# Altium schematic symbol library DCP02xxxxDU.Schlib: 1 symbol
Pins are listed as number, name and electrical type; pins without a type are passive.

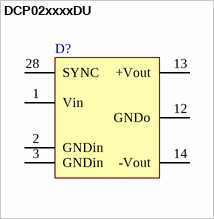
[diagram p0: symbol DCP02xxxxDU]

## DCP02xxxxDU
designator D?
2W DC-DC converter; Package Information: Latest Revision: ver11.0, Feb-2003; Configures: APEX II, APEX 20K, Mercury, ACEX 1K & FLEX Devices; Code - JEDEC: MS-026-ABA; Published: 17-Sep-2003; Datasheet: Latest Revision: ver1.1, Oct-2003; Package Reference: TQFP32; Publisher: Altium Limited
footprint SO-28_DCR
pins: 1 Vin (power), 2 GNDin (power), 3 GNDin (power), 12 GNDo (power), 13 +Vout (power), 14 -Vout (power), 28 SYNC (hiz)